# EAGLE library part TMC2100 (library 3dprinter)
TMC2100 Stepper motor driver Datasheet <https://www.trinamic.com/fileadmin/assets/Products/ICs_Documents/TMC2100_datasheet.pdf>
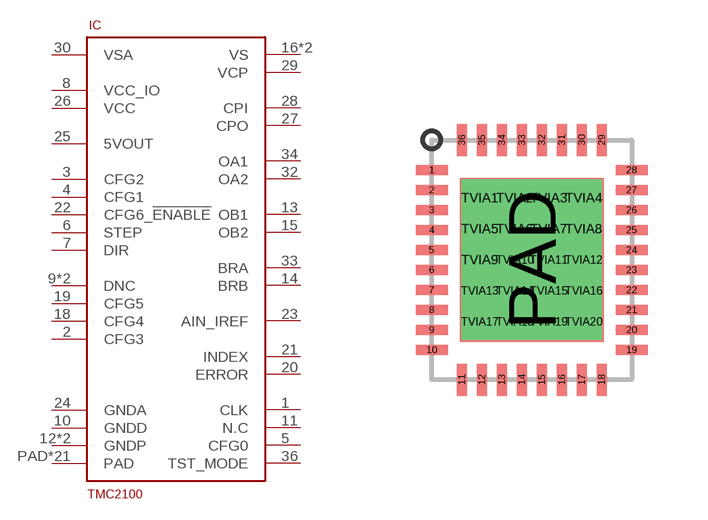
[diagram p1: symbol with the pads of QFN36; footprint QFN36]

Designator prefix IC

## TMC2100 (DIGIKEY: 1460-1128-1-ND)  [QFN36]
1  CLK
2  CFG3
3  CFG2
4  CFG1
5  CFG0
6  STEP
7  DIR
8  VCC_IO
9  DNC
10  GNDD
11  N.C
12  GNDP
13  OB1
14  BRB
15  OB2
16  VS
17  DNC
18  CFG4
19  CFG5
20  ERROR
21  INDEX
22  CFG6_!ENABLE
23  AIN_IREF
24  GNDA
25  5VOUT
26  VCC
27  CPO
28  CPI
29  VCP
30  VSA
31  VS
32  OA2
33  BRA
34  OA1
35  GNDP
36  TST_MODE
PAD  PAD
TVIA1  PAD
TVIA2  PAD
TVIA3  PAD
TVIA4  PAD
TVIA5  PAD
TVIA6  PAD
TVIA7  PAD
TVIA8  PAD
TVIA9  PAD
TVIA10  PAD
TVIA11  PAD
TVIA12  PAD
TVIA13  PAD
TVIA14  PAD
TVIA15  PAD
TVIA16  PAD
TVIA17  PAD
TVIA18  PAD
TVIA19  PAD
TVIA20  PAD

## Footprint QFN36 (pad centres in mm)
QFN36 Package for TMC2100 stepper motor driver Datasheet <https://www.trinamic.com/fileadmin/assets/Products/ICs_Documents/TMC2100_datasheet.pdf>
smd 0.8 x 0.25: 1 -2.5,2.25; 2 -2.5,1.75; 3 -2.5,1.25; 4 -2.5,0.75; 5 -2.5,0.25; 6 -2.5,-0.25; 7 -2.5,-0.75; 8 -2.5,-1.25; 9 -2.5,-1.75; 10 -2.5,-2.25; 19 2.5,-2.25; 20 2.5,-1.75; 21 2.5,-1.25; 22 2.5,-0.75; 23 2.5,-0.25; 24 2.5,0.25; 25 2.5,0.75; 26 2.5,1.25; 27 2.5,1.75; 28 2.5,2.25
smd 0.25 x 0.8: 11 -1.75,-3; 12 -1.25,-3; 13 -0.75,-3; 14 -0.25,-3; 15 0.25,-3; 16 0.75,-3; 17 1.25,-3; 18 1.75,-3; 29 1.75,3; 30 1.25,3; 31 0.75,3; 32 0.25,3; 33 -0.25,3; 34 -0.75,3; 35 -1.25,3; 36 -1.75,3
smd 3.6 x 4.1: PAD 0,0
drill 0.4 square: TVIA1 -1.3,1.55; TVIA2 -0.425,1.55; TVIA3 0.425,1.55; TVIA4 1.3,1.55; TVIA5 -1.3,0.775; TVIA6 -0.425,0.775; TVIA7 0.425,0.775; TVIA8 1.3,0.775; TVIA9 -1.3,0; TVIA10 -0.425,0; TVIA11 0.425,0; TVIA12 1.3,0; TVIA13 -1.3,-0.775; TVIA14 -0.425,-0.775; TVIA15 0.425,-0.775; TVIA16 1.3,-0.775; TVIA17 -1.3,-1.55; TVIA18 -0.425,-1.55; TVIA19 0.425,-1.55; TVIA20 1.3,-1.55